# EAGLE library part DPDT (library comma.ai)
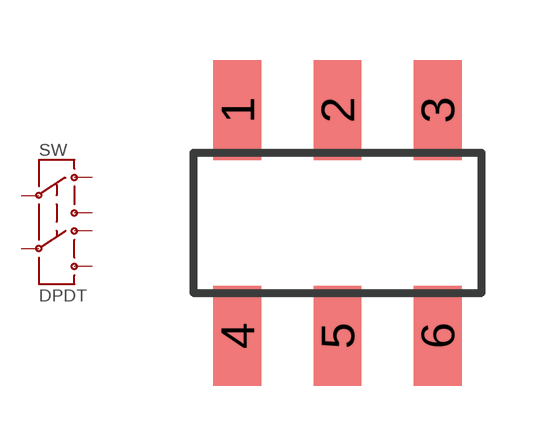
[diagram p29: symbol with the pads of AYZ0202; footprint AYZ0202]

Designator prefix SW

## DPDTDPDT  [AYZ0202]
1  1
2  2
3  3
4  4
5  5
6  6

## Footprint AYZ0202 (pad centres in mm)
DPDT Slide Switch SMD www.SparkFun.com SKU : Comp-SMDS
smd 1.2 x 2.5: 1 -2.5,2.825; 2 0,2.825; 3 2.5,2.825; 4 -2.5,-2.825; 5 0,-2.825; 6 2.5,-2.825